# Altium footprint library pico-clasp-6.PcbLib: 1 footprints
Each footprint in its own frame and in the unit in brackets; x right, y up, seen from the top. Pads: shape width x height; smd on the part's side, far side on the other; paste and mask are expansions set on the pad; w line width, h text height; cw(c..) or ccw(c..) is an arc to the next point about the centre after c.
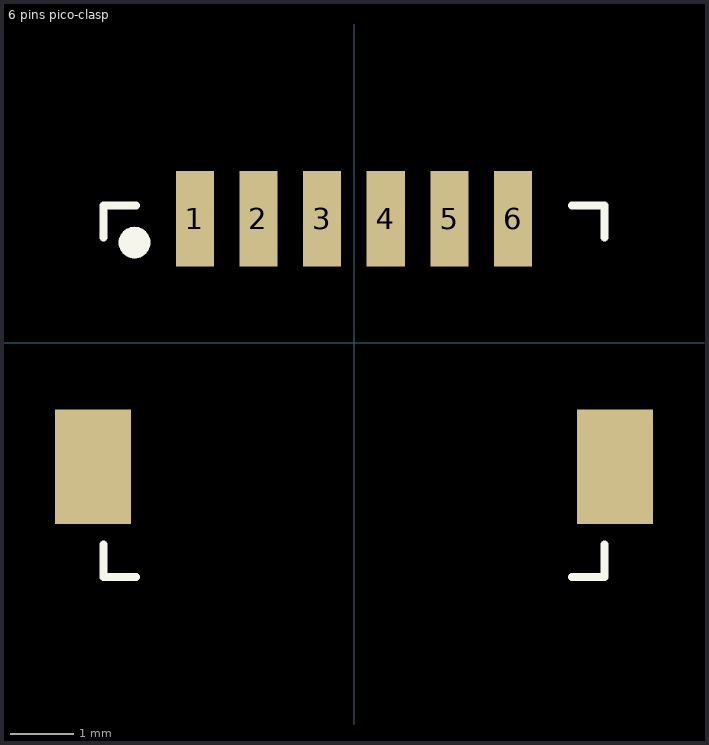
[diagram p0: the footprint, top view; thin cyan lines are the x and y axes]

## 6 pins pico-clasp [mm]
pads (9):
  rect 0.6x1.5 smd: 1(-2.502,1.95) 2(-1.502,1.95) 3(-0.502,1.95) 4(0.498,1.95) 5(1.501,1.95) 6(2.501,1.95)
  rect 1.2x1.8 smd: ""(-4.102,-1.95) ""(4.102,-1.95)
  round 0.5 on Top Overlay: ""(-3.45,1.575)
Top Overlay:
  lines w0.125: -3.937,-3.175 -3.937,-3.683 -3.429,-3.683 ; -3.937,1.651 -3.937,2.159 -3.429,2.159 ; 3.429,-3.683 3.937,-3.683 3.937,-3.175 ; 3.429,2.159 3.937,2.159 3.937,1.651
3D body "2023960607.stp": height 4.7, standoff 0, extent -4,-3.691 4,2.209